# EAGLE library part CONN_FFC_1X12_SHX2 (library GPLIB_CONN)
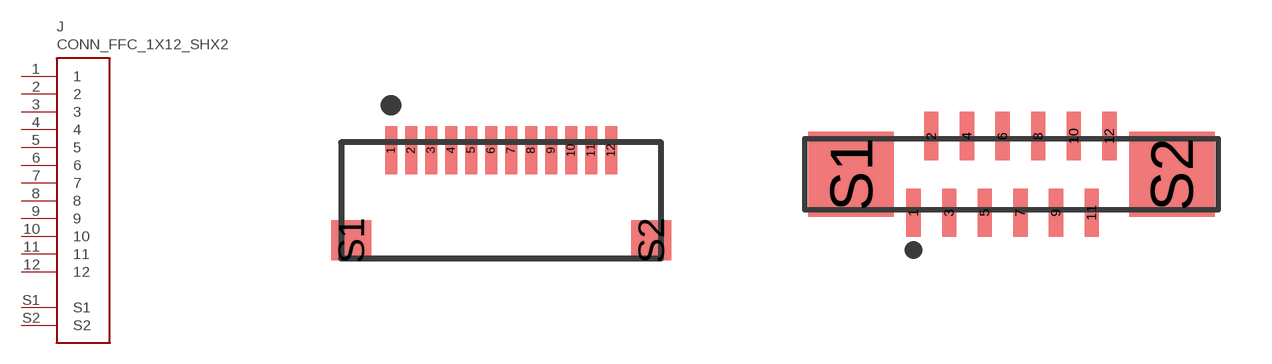
[diagram p2: symbol with the pads of CONN_FFC_1X12_0.5MM_SM_RA_HC-FPC-05-09-12RLTAG; footprints CONN_FFC_1X12_0.5MM_SM_RA_HC-FPC-05-09-12RLTAG, CONN_FFC_1X12_0.5MM_SM_ST_AFC11-S12ICC-00]

Designator prefix J

## CONN_FFC_1X12_SHX2_0.5MM_SM_RA_HC-FPC-05-09-12RLTAG  [CONN_FFC_1X12_0.5MM_SM_RA_HC-FPC-05-09-12RLTAG]
1  1  pas
2  2  pas
3  3  pas
4  4  pas
5  5  pas
6  6  pas
7  7  pas
8  8  pas
9  9  pas
10  10  pas
11  11  pas
12  12  pas
S1  S1  pas
S2  S2  pas

## CONN_FFC_1X12_SHX2_0.5MM_SM_ST_AFC11-S12ICC-00  [CONN_FFC_1X12_0.5MM_SM_ST_AFC11-S12ICC-00]
Pads as for CONN_FFC_1X12_0.5MM_SM_RA_HC-FPC-05-09-12RLTAG

## Footprint CONN_FFC_1X12_0.5MM_SM_RA_HC-FPC-05-09-12RLTAG (pad centres in mm)
smd 0.3 x 1.2: 1 -2.75,1.25; 2 -2.25,1.25; 3 -1.75,1.25; 4 -1.25,1.25; 5 -0.75,1.25; 6 -0.25,1.25; 7 0.25,1.25; 8 0.75,1.25; 9 1.25,1.25; 10 1.75,1.25; 11 2.25,1.25; 12 2.75,1.25
smd 1 x 1: S1 -3.75,-1; S2 3.75,-1

## Footprint CONN_FFC_1X12_0.5MM_SM_ST_AFC11-S12ICC-00 (pad centres in mm)
smd 0.4 x 1.35: 1 -2.75,-1.075; 2 -2.25,1.075; 3 -1.75,-1.075; 4 -1.25,1.075; 5 -0.75,-1.075; 6 -0.25,1.075; 7 0.25,-1.075; 8 0.75,1.075; 9 1.25,-1.075; 10 1.75,1.075; 11 2.25,-1.075; 12 2.75,1.075
smd 2.4 x 2.4: S1 -4.5,0; S2 4.5,0